# Altium schematic symbol library mcu_8bit_avr_mega3250-6450-3290-6490.SchLib: 4 symbols
Pins are listed as number, name and electrical type; pins without a type are passive.

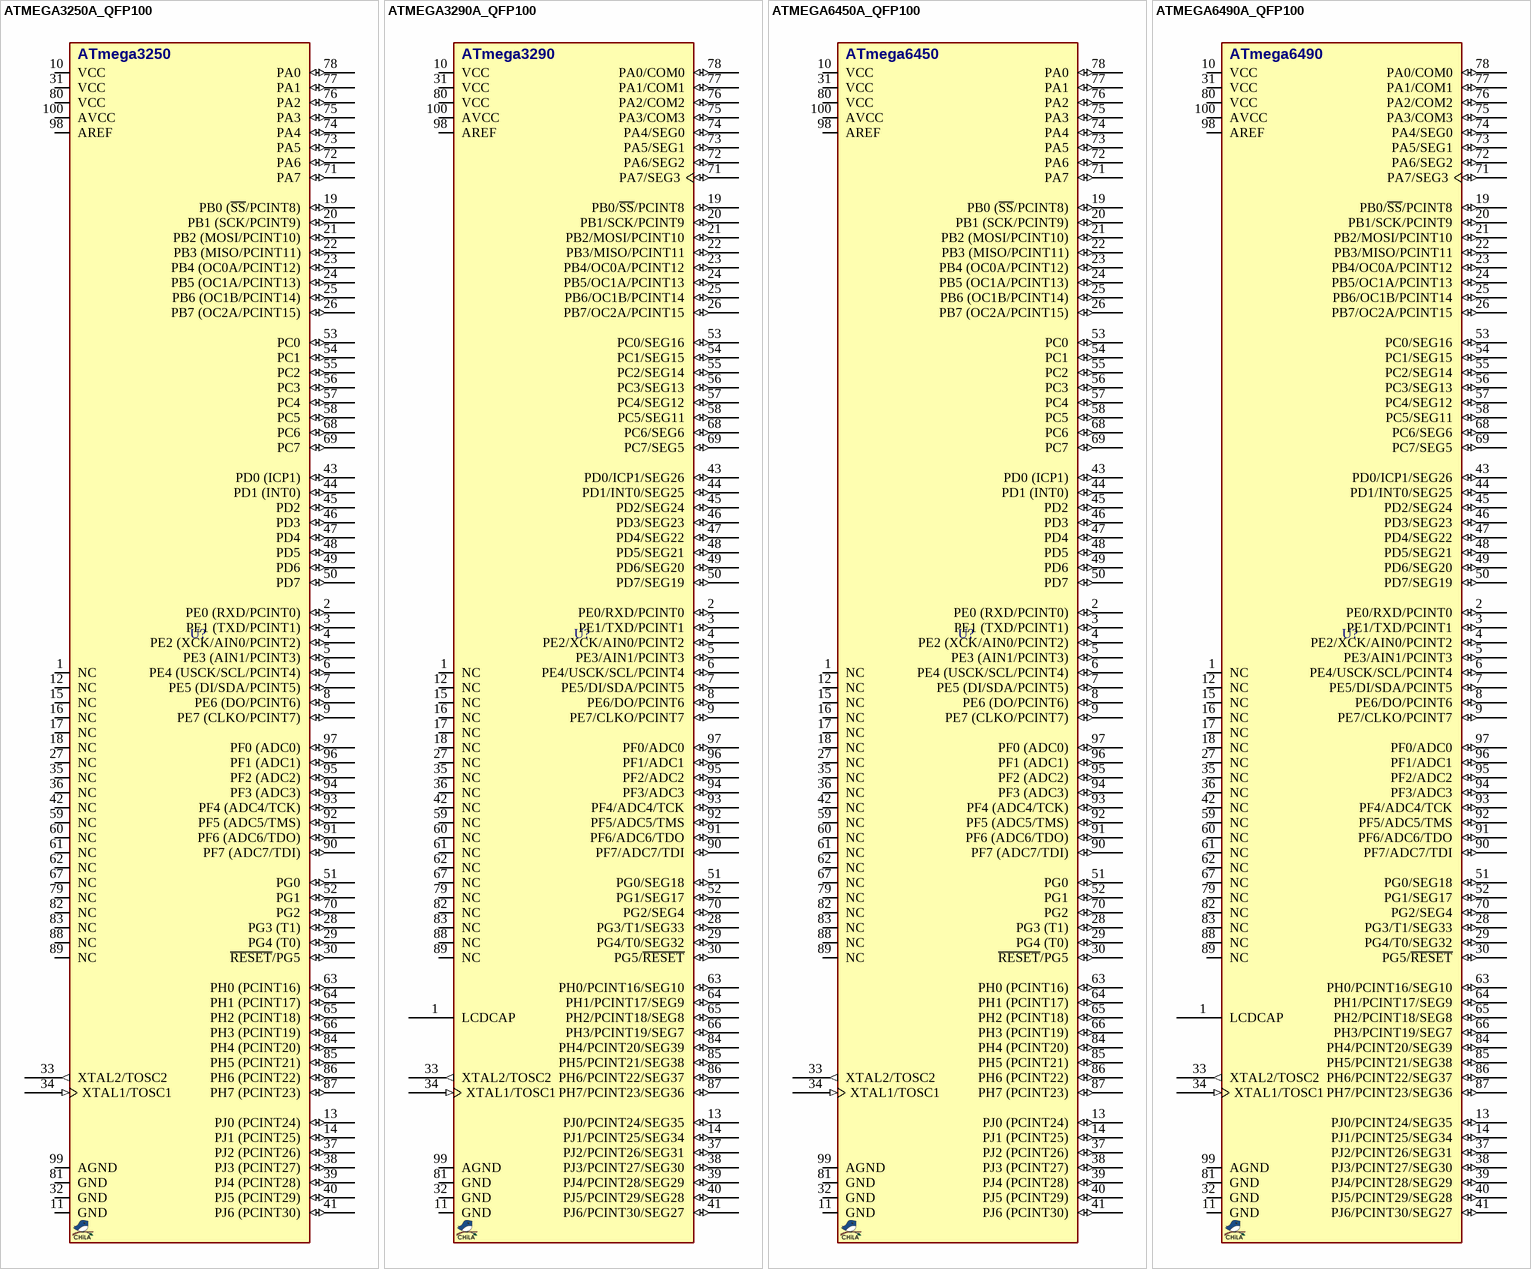
[diagram p0: symbols ATMEGA3250A_QFP100 to ATMEGA6490A_QFP100]

## ATMEGA3250A_QFP100
designator U?, comment ATMEGA3250  (value not drawn)
MCU, AVR, 8-Bit, 32KB, 2KB RAM, 20MHz; MANF_P#: ATmega3250A-AU; DESC: 1KB EEPROM; MANF: ATMEL/MICROCHIP; PARAM2: 1.8~5.5V; PARAM: 32KB, 2KB RAM, 20MHz, -40~85°C; PRICE: 4.5$; VALUE: ATMEGA3250
footprint QFG50_100 (LQFP100, PQFP100, A100 (Cypress), TQ100/VQ100 (Xilinx), 14.0x14.0mm, Pitch 0.5mm, HT100, HTG100)
pins: 1 NC, 2 PE0 (RXD/PCINT0) (io), 3 PE1 (TXD/PCINT1) (io), 4 PE2 (XCK/AIN0/PCINT2) (io), 5 PE3 (AIN1/PCINT3) (io), 6 PE4 (USCK/SCL/PCINT4) (io), 7 PE5 (DI/SDA/PCINT5) (io), 8 PE6 (DO/PCINT6) (io), 9 PE7 (CLKO/PCINT7) (io), 10 VCC (power), 11 GND (power), 12 NC, 13 PJ0 (PCINT24) (io), 14 PJ1 (PCINT25) (io), 15 NC, 16 NC, 17 NC, 18 NC, 19 PB0 (~{SS}/PCINT8) (io), 20 PB1 (SCK/PCINT9) (io), 21 PB2 (MOSI/PCINT10) (io), 22 PB3 (MISO/PCINT11) (io), 23 PB4 (OC0A/PCINT12) (io), 24 PB5 (OC1A/PCINT13) (io), 25 PB6 (OC1B/PCINT14) (io), 26 PB7 (OC2A/PCINT15) (io), 27 NC, 28 PG3 (T1) (io), 29 PG4 (T0) (io), 30 ~{RESET}/PG5 (io), 31 VCC (power), 32 GND (power), 33 XTAL2/TOSC2 (out), 34 XTAL1/TOSC1 (in), 35 NC, 36 NC, 37 PJ2 (PCINT26) (io), 38 PJ3 (PCINT27) (io), 39 PJ4 (PCINT28) (io), 40 PJ5 (PCINT29) (io), 41 PJ6 (PCINT30) (io), 42 NC, 43 PD0 (ICP1) (io), 44 PD1 (INT0) (io), 45 PD2 (io), 46 PD3 (io), 47 PD4 (io), 48 PD5 (io), 49 PD6 (io), 50 PD7 (io), 51 PG0 (io), 52 PG1 (io), 53 PC0 (io), 54 PC1 (io), 55 PC2 (io), 56 PC3 (io), 57 PC4 (io), 58 PC5 (io), 59 NC, 60 NC, 61 NC, 62 NC, 63 PH0 (PCINT16) (io), 64 PH1 (PCINT17) (io), 65 PH2 (PCINT18) (io), 66 PH3 (PCINT19) (io), 67 NC, 68 PC6 (io), 69 PC7 (io), 70 PG2 (io), 71 PA7 (io), 72 PA6 (io), 73 PA5 (io), 74 PA4 (io), 75 PA3 (io), 76 PA2 (io), 77 PA1 (io), 78 PA0 (io), 79 NC, 80 VCC (power), 81 GND (power), 82 NC, 83 NC, 84 PH4 (PCINT20) (io), 85 PH5 (PCINT21) (io), 86 PH6 (PCINT22) (io), 87 PH7 (PCINT23) (io), 88 NC, 89 NC, 90 PF7 (ADC7/TDI) (io), 91 PF6 (ADC6/TDO) (io), 92 PF5 (ADC5/TMS) (io), 93 PF4 (ADC4/TCK) (io), 94 PF3 (ADC3) (io), 95 PF2 (ADC2) (io), 96 PF1 (ADC1) (io), 97 PF0 (ADC0) (io), 98 AREF (power), 99 AGND (power), 100 AVCC (power)
text: ATmega3250

## ATMEGA3290A_QFP100
designator U?, comment ATMEGA3290  (value not drawn)
MCU, AVR, 8-Bit, 32KB, 2KB RAM, 20MHz, LCD Driver; MANF_P#: ATmega3290A-AU; DESC: 1KB EEPROM; MANF: ATMEL/MICROCHIP; PARAM2: 1.8~5.5V; PARAM: 32KB, 2KB RAM, 20MHz, -40~85°C; PRICE: 4.5$; VALUE: ATMEGA3290
footprint QFG50_100 (LQFP100, PQFP100, A100 (Cypress), TQ100/VQ100 (Xilinx), 14.0x14.0mm, Pitch 0.5mm, HT100, HTG100)
pins: 1 NC, 1 LCDCAP, 2 PE0/RXD/PCINT0 (io), 3 PE1/TXD/PCINT1 (io), 4 PE2/XCK/AIN0/PCINT2 (io), 5 PE3/AIN1/PCINT3 (io), 6 PE4/USCK/SCL/PCINT4 (io), 7 PE5/DI/SDA/PCINT5 (io), 8 PE6/DO/PCINT6 (io), 9 PE7/CLKO/PCINT7 (io), 10 VCC (power), 11 GND (power), 12 NC, 13 PJ0/PCINT24/SEG35 (io), 14 PJ1/PCINT25/SEG34 (io), 15 NC, 16 NC, 17 NC, 18 NC, 19 PB0/~{SS}/PCINT8 (io), 20 PB1/SCK/PCINT9 (io), 21 PB2/MOSI/PCINT10 (io), 22 PB3/MISO/PCINT11 (io), 23 PB4/OC0A/PCINT12 (io), 24 PB5/OC1A/PCINT13 (io), 25 PB6/OC1B/PCINT14 (io), 26 PB7/OC2A/PCINT15 (io), 27 NC, 28 PG3/T1/SEG33 (io), 29 PG4/T0/SEG32 (io), 30 PG5/~{RESET} (io), 31 VCC (power), 32 GND (power), 33 XTAL2/TOSC2 (out), 34 XTAL1/TOSC1 (in), 35 NC, 36 NC, 37 PJ2/PCINT26/SEG31 (io), 38 PJ3/PCINT27/SEG30 (io), 39 PJ4/PCINT28/SEG29 (io), 40 PJ5/PCINT29/SEG28 (io), 41 PJ6/PCINT30/SEG27 (io), 42 NC, 43 PD0/ICP1/SEG26 (io), 44 PD1/INT0/SEG25 (io), 45 PD2/SEG24 (io), 46 PD3/SEG23 (io), 47 PD4/SEG22 (io), 48 PD5/SEG21 (io), 49 PD6/SEG20 (io), 50 PD7/SEG19 (io), 51 PG0/SEG18 (io), 52 PG1/SEG17 (io), 53 PC0/SEG16 (io), 54 PC1/SEG15 (io), 55 PC2/SEG14 (io), 56 PC3/SEG13 (io), 57 PC4/SEG12 (io), 58 PC5/SEG11 (io), 59 NC, 60 NC, 61 NC, 62 NC, 63 PH0/PCINT16/SEG10 (io), 64 PH1/PCINT17/SEG9 (io), 65 PH2/PCINT18/SEG8 (io), 66 PH3/PCINT19/SEG7 (io), 67 NC, 68 PC6/SEG6 (io), 69 PC7/SEG5 (io), 70 PG2/SEG4 (io), 71 PA7/SEG3 (io), 72 PA6/SEG2 (io), 73 PA5/SEG1 (io), 74 PA4/SEG0 (io), 75 PA3/COM3 (io), 76 PA2/COM2 (io), 77 PA1/COM1 (io), 78 PA0/COM0 (io), 79 NC, 80 VCC (power), 81 GND (power), 82 NC, 83 NC, 84 PH4/PCINT20/SEG39 (io), 85 PH5/PCINT21/SEG38 (io), 86 PH6/PCINT22/SEG37 (io), 87 PH7/PCINT23/SEG36 (io), 88 NC, 89 NC, 90 PF7/ADC7/TDI (io), 91 PF6/ADC6/TDO (io), 92 PF5/ADC5/TMS (io), 93 PF4/ADC4/TCK (io), 94 PF3/ADC3 (io), 95 PF2/ADC2 (io), 96 PF1/ADC1 (io), 97 PF0/ADC0 (io), 98 AREF (power), 99 AGND (power), 100 AVCC (power)
text: ATmega3290

## ATMEGA6450A_QFP100
designator U?, comment ATMEGA6450  (value not drawn)
MCU, AVR, 8-Bit, 64KB, 4KB RAM, 20MHz; MANF_P#: ATmega6450A-AU; DESC: 2KB EEPROM; MANF: ATMEL/MICROCHIP; PARAM2: 1.8~5.5V; PARAM: 64KB, 4KB RAM, 20MHz, -40~85°C; PRICE: 4.5$; VALUE: ATMEGA6450
footprint QFG50_100 (LQFP100, PQFP100, A100 (Cypress), TQ100/VQ100 (Xilinx), 14.0x14.0mm, Pitch 0.5mm, HT100, HTG100)
pins: 1 NC, 2 PE0 (RXD/PCINT0) (io), 3 PE1 (TXD/PCINT1) (io), 4 PE2 (XCK/AIN0/PCINT2) (io), 5 PE3 (AIN1/PCINT3) (io), 6 PE4 (USCK/SCL/PCINT4) (io), 7 PE5 (DI/SDA/PCINT5) (io), 8 PE6 (DO/PCINT6) (io), 9 PE7 (CLKO/PCINT7) (io), 10 VCC (power), 11 GND (power), 12 NC, 13 PJ0 (PCINT24) (io), 14 PJ1 (PCINT25) (io), 15 NC, 16 NC, 17 NC, 18 NC, 19 PB0 (~{SS}/PCINT8) (io), 20 PB1 (SCK/PCINT9) (io), 21 PB2 (MOSI/PCINT10) (io), 22 PB3 (MISO/PCINT11) (io), 23 PB4 (OC0A/PCINT12) (io), 24 PB5 (OC1A/PCINT13) (io), 25 PB6 (OC1B/PCINT14) (io), 26 PB7 (OC2A/PCINT15) (io), 27 NC, 28 PG3 (T1) (io), 29 PG4 (T0) (io), 30 ~{RESET}/PG5 (io), 31 VCC (power), 32 GND (power), 33 XTAL2/TOSC2 (out), 34 XTAL1/TOSC1 (in), 35 NC, 36 NC, 37 PJ2 (PCINT26) (io), 38 PJ3 (PCINT27) (io), 39 PJ4 (PCINT28) (io), 40 PJ5 (PCINT29) (io), 41 PJ6 (PCINT30) (io), 42 NC, 43 PD0 (ICP1) (io), 44 PD1 (INT0) (io), 45 PD2 (io), 46 PD3 (io), 47 PD4 (io), 48 PD5 (io), 49 PD6 (io), 50 PD7 (io), 51 PG0 (io), 52 PG1 (io), 53 PC0 (io), 54 PC1 (io), 55 PC2 (io), 56 PC3 (io), 57 PC4 (io), 58 PC5 (io), 59 NC, 60 NC, 61 NC, 62 NC, 63 PH0 (PCINT16) (io), 64 PH1 (PCINT17) (io), 65 PH2 (PCINT18) (io), 66 PH3 (PCINT19) (io), 67 NC, 68 PC6 (io), 69 PC7 (io), 70 PG2 (io), 71 PA7 (io), 72 PA6 (io), 73 PA5 (io), 74 PA4 (io), 75 PA3 (io), 76 PA2 (io), 77 PA1 (io), 78 PA0 (io), 79 NC, 80 VCC (power), 81 GND (power), 82 NC, 83 NC, 84 PH4 (PCINT20) (io), 85 PH5 (PCINT21) (io), 86 PH6 (PCINT22) (io), 87 PH7 (PCINT23) (io), 88 NC, 89 NC, 90 PF7 (ADC7/TDI) (io), 91 PF6 (ADC6/TDO) (io), 92 PF5 (ADC5/TMS) (io), 93 PF4 (ADC4/TCK) (io), 94 PF3 (ADC3) (io), 95 PF2 (ADC2) (io), 96 PF1 (ADC1) (io), 97 PF0 (ADC0) (io), 98 AREF (power), 99 AGND (power), 100 AVCC (power)
text: ATmega6450

## ATMEGA6490A_QFP100
designator U?, comment ATMEGA6490  (value not drawn)
MCU, AVR, 8-Bit, 64KB, 4KB RAM, 20MHz, LCD Driver; MANF_P#: ATmega6490A-AU; DESC: 2KB EEPROM; MANF: ATMEL/MICROCHIP; PARAM2: 1.8~5.5V; PARAM: 64KB, 4KB RAM, 20MHz, -40~85°C; PRICE: 4.5$; VALUE: ATMEGA6490
footprint QFG50_100 (LQFP100, PQFP100, A100 (Cypress), TQ100/VQ100 (Xilinx), 14.0x14.0mm, Pitch 0.5mm, HT100, HTG100)
pins: 1 NC, 1 LCDCAP, 2 PE0/RXD/PCINT0 (io), 3 PE1/TXD/PCINT1 (io), 4 PE2/XCK/AIN0/PCINT2 (io), 5 PE3/AIN1/PCINT3 (io), 6 PE4/USCK/SCL/PCINT4 (io), 7 PE5/DI/SDA/PCINT5 (io), 8 PE6/DO/PCINT6 (io), 9 PE7/CLKO/PCINT7 (io), 10 VCC (power), 11 GND (power), 12 NC, 13 PJ0/PCINT24/SEG35 (io), 14 PJ1/PCINT25/SEG34 (io), 15 NC, 16 NC, 17 NC, 18 NC, 19 PB0/~{SS}/PCINT8 (io), 20 PB1/SCK/PCINT9 (io), 21 PB2/MOSI/PCINT10 (io), 22 PB3/MISO/PCINT11 (io), 23 PB4/OC0A/PCINT12 (io), 24 PB5/OC1A/PCINT13 (io), 25 PB6/OC1B/PCINT14 (io), 26 PB7/OC2A/PCINT15 (io), 27 NC, 28 PG3/T1/SEG33 (io), 29 PG4/T0/SEG32 (io), 30 PG5/~{RESET} (io), 31 VCC (power), 32 GND (power), 33 XTAL2/TOSC2 (out), 34 XTAL1/TOSC1 (in), 35 NC, 36 NC, 37 PJ2/PCINT26/SEG31 (io), 38 PJ3/PCINT27/SEG30 (io), 39 PJ4/PCINT28/SEG29 (io), 40 PJ5/PCINT29/SEG28 (io), 41 PJ6/PCINT30/SEG27 (io), 42 NC, 43 PD0/ICP1/SEG26 (io), 44 PD1/INT0/SEG25 (io), 45 PD2/SEG24 (io), 46 PD3/SEG23 (io), 47 PD4/SEG22 (io), 48 PD5/SEG21 (io), 49 PD6/SEG20 (io), 50 PD7/SEG19 (io), 51 PG0/SEG18 (io), 52 PG1/SEG17 (io), 53 PC0/SEG16 (io), 54 PC1/SEG15 (io), 55 PC2/SEG14 (io), 56 PC3/SEG13 (io), 57 PC4/SEG12 (io), 58 PC5/SEG11 (io), 59 NC, 60 NC, 61 NC, 62 NC, 63 PH0/PCINT16/SEG10 (io), 64 PH1/PCINT17/SEG9 (io), 65 PH2/PCINT18/SEG8 (io), 66 PH3/PCINT19/SEG7 (io), 67 NC, 68 PC6/SEG6 (io), 69 PC7/SEG5 (io), 70 PG2/SEG4 (io), 71 PA7/SEG3 (io), 72 PA6/SEG2 (io), 73 PA5/SEG1 (io), 74 PA4/SEG0 (io), 75 PA3/COM3 (io), 76 PA2/COM2 (io), 77 PA1/COM1 (io), 78 PA0/COM0 (io), 79 NC, 80 VCC (power), 81 GND (power), 82 NC, 83 NC, 84 PH4/PCINT20/SEG39 (io), 85 PH5/PCINT21/SEG38 (io), 86 PH6/PCINT22/SEG37 (io), 87 PH7/PCINT23/SEG36 (io), 88 NC, 89 NC, 90 PF7/ADC7/TDI (io), 91 PF6/ADC6/TDO (io), 92 PF5/ADC5/TMS (io), 93 PF4/ADC4/TCK (io), 94 PF3/ADC3 (io), 95 PF2/ADC2 (io), 96 PF1/ADC1 (io), 97 PF0/ADC0 (io), 98 AREF (power), 99 AGND (power), 100 AVCC (power)
text: ATmega6490